# Altium footprint library 05E_Transitor.PcbLib: 2 footprints
Each footprint in its own frame and in the unit in brackets; x right, y up, seen from the top. Pads: shape width x height; smd on the part's side, far side on the other; paste and mask are expansions set on the pad; w line width, h text height; cw(c..) or ccw(c..) is an arc to the next point about the centre after c.
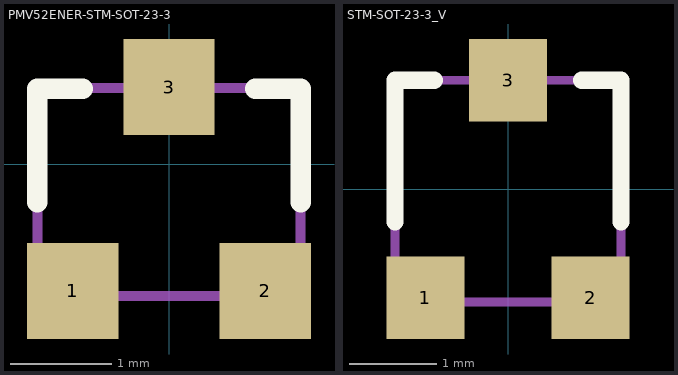
[diagram p0: the footprints below, top view; thin cyan lines are the x and y axes]

## PMV52ENER-STM-SOT-23-3 [mm] "SOT23, 3-Leads, Body 3.016x2.8mm, Pitch 0.95mm"
pads (3):
  rect 0.9x0.95 smd: 1(-0.95,-1.25) 2(0.95,-1.25) 3(0,0.762)
Top Overlay:
  lines w0.2: -1.3,-0.375 -1.3,0.745 -0.85,0.745 ; 0.85,0.745 1.3,0.745 1.3,-0.375
Top 3D Body:
  rectangle: -0.288,0.616 0.312,0.866
  region: -0.625,-1.275 -1.225,-1.275 -1.225,-1.525 -0.625,-1.525
  region: 1.225,-1.275 0.625,-1.275 0.625,-1.525 1.225,-1.525
  lines w0.1: -1.3,-1.3 -1.3,0.752 1.3,0.752 1.3,-1.3 -1.3,-1.3
  text ".Comment" at -1.18,-0.167 h0.5
  text ".Designator" at -1.18,0.258 h0.5
3D body: height 0.13, standoff 0, extent -0.249,0.394 0.258,1.104
3D body: height 0.13, standoff 0, extent 0.663,-1.254 1.17,-0.543
3D body: height 2.54, standoff -2.54, extent -2.526,-2.486 2.554,2.594
3D body: height 0.13, standoff 0, extent -1.115,-1.254 -0.608,-0.543

## STM-SOT-23-3_V [mm] "SOT23, 3-Leads, Body 3.016x2.8mm, Pitch 0.95mm"
pads (3):
  rect 0.9x0.95 smd: 1(-0.95,-1.25) 2(0.95,-1.25) 3(0,1.25)
Top Overlay:
  lines w0.2: -1.3,-0.375 -1.3,1.25 -0.85,1.25 ; 0.85,1.25 1.3,1.25 1.3,-0.375
Top 3D Body:
  region: 1.225,-1.275 0.625,-1.275 0.625,-1.525 1.225,-1.525
  region: -0.625,-1.275 -1.225,-1.275 -1.225,-1.525 -0.625,-1.525
  rectangle: -0.3,1.25 0.3,1.5
  lines w0.1: -1.3,-1.3 1.3,-1.3 1.3,1.25 -1.3,1.25 -1.3,-1.3
  text ".Designator" at -1.2,0.75 h0.5
  text ".Comment" at -1.2,0.325 h0.5
3D body: height 0.13, standoff 0, extent -1.115,-1.254 -0.608,-0.543
3D body: height 1.27, standoff 0, extent -2.526,-2.486 2.554,2.594
3D body: height 0.13, standoff 0, extent 0.663,-1.254 1.17,-0.543
3D body: height 0.13, standoff 0, extent -0.239,0.651 0.268,1.362